# EAGLE library part TMM110-01-L-D (library Traficon)
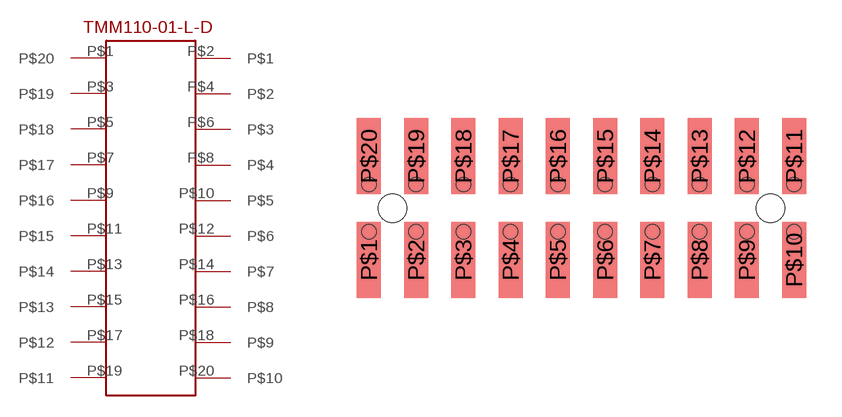
[diagram p24: symbol with the pads of TMM110-01-L-D; footprint TMM110-01-L-D]

Designator prefix -

## TMM110-01-L-D  [TMM110-01-L-D]
P$1  P$20
P$2  P$1
P$3  P$19
P$4  P$2
P$5  P$18
P$6  P$3
P$7  P$17
P$8  P$4
P$9  P$16
P$10  P$5
P$11  P$15
P$12  P$6
P$13  P$14
P$14  P$7
P$15  P$13
P$16  P$8
P$17  P$12
P$18  P$9
P$19  P$11
P$20  P$10

## Footprint TMM110-01-L-D (pad centres in mm)
smd 1.016 x 3.213: P$1 -9,-2.2; P$2 -7,-2.2; P$3 -5,-2.2; P$4 -3,-2.2; P$5 -1,-2.2; P$6 1,-2.2; P$7 3,-2.2; P$8 5,-2.2; P$9 7,-2.2; P$10 9,-2.2; P$11 9,2.2; P$12 7,2.2; P$13 5,2.2; P$14 3,2.2; P$15 1,2.2; P$16 -1,2.2; P$17 -3,2.2; P$18 -5,2.2; P$19 -7,2.2; P$20 -9,2.2
hole 1.2 at -8,0
hole 1.2 at 8,0
hole 0.6 at -9,1
hole 0.6 at -7,1
hole 0.6 at -5,1
hole 0.6 at -3,1
hole 0.6 at -1,1
hole 0.6 at 1,1
hole 0.6 at 3,1
hole 0.6 at 5,1
hole 0.6 at 7,1
hole 0.6 at 9,1
hole 0.6 at -9,-1
hole 0.6 at -7,-1
hole 0.6 at -5,-1
hole 0.6 at -3,-1
hole 0.6 at -1,-1
hole 0.6 at 1,-1
hole 0.6 at 3,-1
hole 0.6 at 5,-1
hole 0.6 at 7,-1
hole 0.6 at 9,-1